# Altium footprint library elvis_lib.PcbLib: 50 footprints (part 2 of 4)
Each footprint in its own frame and in the unit in brackets; x right, y up, seen from the top. Pads: shape width x height; smd on the part's side, far side on the other; paste and mask are expansions set on the pad; w line width, h text height; cw(c..) or ccw(c..) is an arc to the next point about the centre after c.
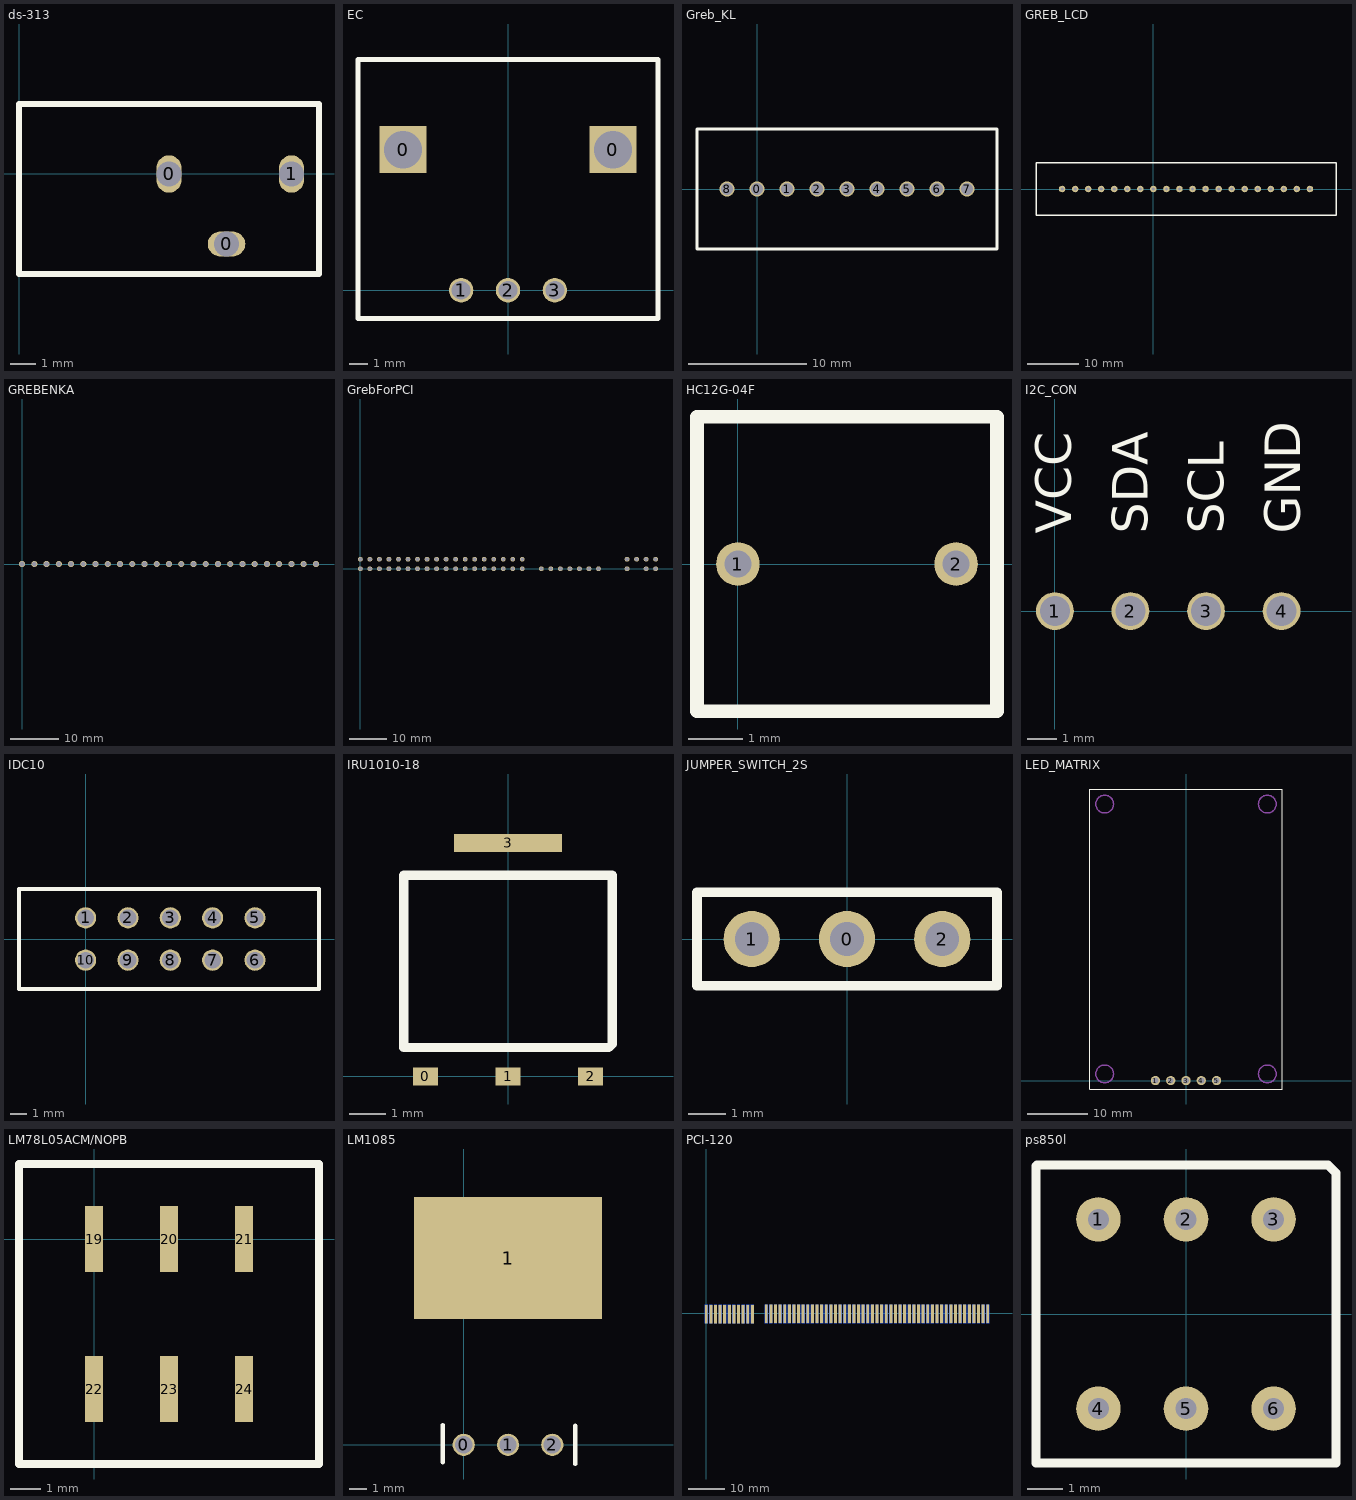
[diagram p1: the footprints below, top view; thin cyan lines are the x and y axes]

## ds-313 [mm]
pads (3):
  oval 1x1.5 / inner round 1.524 / far side oval 1x1.5 hole 1: 0(6,0) 1(10.9,0)
  oval 1.5x1 / inner round 1.524 / far side oval 1.5x1 hole 1: 0(8.3,-2.8)
Top Overlay:
  lines w0.254: 0,-4 12,-4 12,2.8 0,2.8 0,-4

## EC [mm] "EC12 rotary encoder"
pads (5):
  rect 2.5x2.5 hole 2 square: 0(-5.6,7.5) 0(5.6,7.5)
  round 1.3 hole 1: 1(-2.5,0) 2(0,0) 3(2.5,0)
Top Overlay:
  lines w0.254: -8,-1.5 8,-1.5 8,7.8 8,12.3 3.4,12.3 -3.4,12.3 -8,12.3 -8,7.8 -8,-1.5

## Greb_KL [mm]
pads (9):
  round 1.27 / inner round 1.524 / far side round 1.27 hole 1: 0(0,0) 1(2.54,0) 2(5.08,0) 3(7.62,0) 4(10.16,0) 5(12.7,0) 6(15.24,0)
  round 1.27 / inner rect 0.8x2.54 / far side round 1.27 hole 1: 7(17.78,0) 8(-2.54,0)
Top Overlay:
  lines w0.254: -5.08,-5.08 20.32,-5.08 20.32,5.08 -5.08,5.08 -5.08,-5.08

## GREB_LCD [mm]
pads (20):
  round 1.27 / inner rect 0.8x2.54 / far side round 1.27 hole 0.65: 0(-17.78,0) 1(-15.24,0) 2(-12.7,0) 3(-10.16,0) 4(-7.62,0) 5(-5.08,0) 6(-2.54,0) 7(0,0) 8(2.54,0) 9(5.08,0) 10(7.62,0) 11(10.16,0) 12(12.7,0) 13(15.24,0) 14(17.78,0) 15(20.32,0) 16(22.86,0) 17(25.4,0) 18(27.94,0) 19(30.48,0)
Top Overlay:
  lines w0.254: -22.86,-5.08 35.56,-5.08 35.56,5.08 -22.86,5.08 -22.86,-5.08

## GREBENKA [mm]
pads (25):
  round 1.27 / inner rect 0.8x2.54 / far side round 1.27 hole 1: 1(0,0) 2(2.54,0) 3(5.08,0) 4(7.62,0) 5(10.16,0) 6(12.7,0) 7(15.24,0) 8(17.78,0) 9(20.32,0) 10(22.86,0) 11(25.4,0) 12(27.94,0) 13(30.48,0) 14(33.02,0) 15(35.56,0) 16(38.1,0) 17(40.64,0) 18(43.18,0) 19(45.72,0) 20(48.26,0) 21(50.8,0) 22(53.34,0) 23(55.88,0) 24(58.42,0) 25(60.96,0)

## GrebForPCI [mm]
pads (50):
  round 1.27 / inner rect 0.51x1.1 / far side round 1.27 hole 1: 0(0,0) 3(2.54,0) 7(5.08,0) 8(7.62,0) 9(10.16,0) 10(12.7,0) 12(15.24,0) 13(17.78,0) 14(20.32,0) 15(22.86,0) 23(25.4,0) 24(27.94,0) 25(30.48,0) 28(33.02,0) 29(35.56,0) 31(38.1,0) 32(40.64,0) 37(43.18,0) 38(48.26,0) 39(50.8,0) 40(53.34,0) 42(55.88,0) 43(58.42,0) 44(60.96,0) 45(63.5,0) 50(71.12,0) 57(76.2,0) 58(78.74,0) 59(78.74,2.54) 61(76.2,2.54) 67(73.66,2.54) 68(71.12,2.54) 87(43.18,2.54) 88(40.64,2.54) 90(38.1,2.54) 91(35.56,2.54) 93(33.02,2.54) 94(30.48,2.54) 95(27.94,2.54) 96(25.4,2.54) 103(22.86,2.54) 104(20.32,2.54) 105(17.78,2.54) 106(15.24,2.54) 108(12.7,2.54) 109(10.16,2.54) 110(7.62,2.54) 111(5.08,2.54) 115(2.54,2.54) 117(0,2.54)

## HC12G-04F [mm]
pads (2):
  round 0.8 hole 0.5: 1(0,0) 2(4,0)
Top Overlay:
  lines w0.254: -0.75,-2.7 4.75,-2.7 4.75,2.7 -0.75,2.7 -0.75,0 -0.75,-2.7

## I2C_CON [mm] "I2C pls connector"
pads (4):
  round 1.27 / inner round 1.524 / far side round 1.27 hole 1: 1(0,0) 2(2.54,0) 3(5.08,0) 4(7.62,0)
Top Overlay:
  text "VCC" at 0.55,2.6 h1.2
  text "SDA" at 3.117,2.6 h1.2
  text "SCL" at 5.683,2.6 h1.2
  text "GND" at 8.25,2.6 h1.2

## IDC10 [mm]
pads (10):
  round 1.27 / inner rect 0.8x2.54 / far side round 1.27 hole 1: 1(0,1.27) 2(2.54,1.27) 3(5.08,1.27) 4(7.62,1.27) 5(10.16,1.27) 6(10.16,-1.27) 7(7.62,-1.27) 8(5.08,-1.27) 9(2.54,-1.27) 10(0,-1.27)
Top Overlay:
  lines w0.254: -4,-3 -4,3 14,3 14,-3 -4,-3

## IRU1010-18 [mm]
pads (4):
  rect 0.7x0.5 smd mask+0.05: 0(-2.3,0) 1(0,0) 2(2.3,0)
  rect 3x0.5 smd mask+0.05: 3(0,6.5)
Top Overlay:
  lines w0.254: -2.9,0.8 -1.95,0.8 1.55,0.8 2.238,0.8 2.8,0.8 2.9,0.9 2.9,5.6 -2.9,5.6 -2.9,0.8

## JUMPER_SWITCH_2S [mm] "2 state jumper switch"
pads (3):
  round 1.5 hole 0.9: 0(0,0) 1(-2.54,0) 2(2.54,0)
Top Overlay:
  lines w0.254: -4,-1.25 -4,1.25 4,1.25 4,-1.25 -4,-1.25

## LED_MATRIX [mil]
pads (5):
  round 60 hole 39.37: 1(-200,0) 2(-100,0) 3(0,0) 4(100,0) 5(200,0)
Top Overlay:
  lines w7.87: -629.92,-55.12 0,-55.12 629.92,-55.12 629.92,1866.14 629.92,1905.51 -629.92,1905.51 -629.92,-55.12
Mechanical 1:
  circle w10: c531.5,43.31 r58.13
  circle w10: c-531.5,43.31 r58.13
  circle w10: c-531.5,1807.09 r58.13
  circle w10: c531.5,1807.09 r58.13

## LM78L05ACM/NOPB [mm]
pads (6):
  rect 0.6x2.2 smd: 19(0,0) 20(2.5,0) 21(5,0) 22(0,-5) 23(2.5,-5) 24(5,-5)
Top Overlay:
  lines w0.254: -2.5,-7.5 -2.5,2.5 7.5,2.5 7.5,-7.5 -2.5,-7.5

## LM1085 [mm]
pads (4):
  round 1.27 / inner oval 0.4x0.3 / far side round 1.27 hole 1 mask+0.05: 0(0,0) 1(2.54,0) 2(5.08,0)
  rect 10.8x7 smd mask+0.05: 1(2.54,10.7)
Top Overlay:
  lines w0.254: -1.2,-1 -1.2,1.136 ; 6.4,-1.1 6.4,-0.7 6.4,1.1

## PCI-120 [mm]
pads (120):
  rect 0.8x5.08 smd mask+0.05: 0(0,-0.2) 1(1.27,-0.2) 2(2.54,-0.2) 3(3.81,-0.2) 4(5.08,-0.2) 5(6.35,-0.2) 6(7.62,-0.2) 7(8.89,-0.2) 8(10.16,-0.2) 9(11.43,-0.2) 10(12.7,-0.2) 11(16.52,-0.14) 12(17.79,-0.14) 13(19.06,-0.14) 14(20.33,-0.14) 15(21.6,-0.14) 16(22.87,-0.14) 17(24.14,-0.14) 18(25.41,-0.14) 19(26.68,-0.14) 20(27.95,-0.14) 21(29.22,-0.14) 22(30.49,-0.14) 23(31.76,-0.14) 24(33.03,-0.14) 25(34.3,-0.14) 26(35.57,-0.14) 27(36.84,-0.14) 28(38.11,-0.14) 29(39.38,-0.14) 30(40.65,-0.14) 31(41.92,-0.14) 32(43.19,-0.14) 33(44.46,-0.14) 34(45.73,-0.14) 35(47,-0.14) 36(48.27,-0.14) 37(49.54,-0.14) 38(50.81,-0.14) 39(52.08,-0.14) 40(53.35,-0.14) 41(54.62,-0.14) 42(55.89,-0.14) 43(57.16,-0.14) 44(58.43,-0.14) 45(59.7,-0.14) 46(60.97,-0.14) 47(62.24,-0.14) 48(63.51,-0.14) 49(64.78,-0.14) 50(66.05,-0.14) 51(67.32,-0.14) 52(68.59,-0.14) 53(69.86,-0.14) 54(71.13,-0.14) 55(72.4,-0.14) 56(73.67,-0.14) 57(74.94,-0.14) 58(76.21,-0.14) 59(77.48,-0.14)
  rect 0.8x5.08 smd far side mask+0.05: 60(77.48,-0.14) 61(76.21,-0.14) 62(74.94,-0.14) 63(73.67,-0.14) 64(72.4,-0.14) 65(71.13,-0.14) 66(69.86,-0.14) 67(68.59,-0.14) 68(67.32,-0.14) 69(66.05,-0.14) 70(64.78,-0.14) 71(63.5,-0.14) 72(62.24,-0.14) 73(60.97,-0.14) 74(59.7,-0.14) 75(58.43,-0.14) 76(57.16,-0.14) 77(55.89,-0.14) 78(54.62,-0.14) 79(53.35,-0.14) 80(52.08,-0.14) 81(50.81,-0.14) 82(49.54,-0.14) 83(48.27,-0.14) 84(47,-0.14) 85(45.73,-0.14) 86(44.46,-0.14) 87(43.19,-0.14) 88(41.92,-0.14) 89(40.65,-0.14) 90(39.38,-0.14) 91(38.11,-0.14) 92(36.84,-0.14) 93(35.57,-0.14) 94(34.3,-0.14) 95(33.03,-0.14) 96(31.76,-0.14) 97(30.49,-0.14) 98(29.22,-0.14) 99(27.95,-0.14) 100(26.68,-0.14) 101(25.41,-0.14) 102(24.14,-0.14) 103(22.87,-0.14) 104(21.6,-0.14) 105(20.33,-0.14) 106(19.06,-0.14) 107(17.79,-0.14) 108(16.52,-0.14) 109(12.7,-0.2) 110(11.43,-0.2) 111(10.16,-0.2) 112(8.89,-0.2) 113(7.62,-0.2) 114(6.35,-0.2) 115(5.08,-0.2) 116(3.81,-0.2) 117(2.54,-0.2) 118(1.27,-0.2) 119(0,-0.2)

## ps850l [mm]
pads (6):
  round 1.27 / inner round 1.524 / far side round 1.27 hole 0.6: 1(-2.5,2.7) 2(0,2.7) 3(2.5,2.7) 4(-2.5,-2.7) 5(0,-2.7) 6(2.5,-2.7)
Top Overlay:
  lines w0.254: 4.25,4.059 4.059,4.25 -4.25,4.25 -4.279,4.221 -4.279,-4.25 4.279,-4.25 4.279,4.029